# Altium footprint library Pressure_Sensors.PcbLib: 3 footprints
Each footprint in its own frame and in the unit in brackets; x right, y up, seen from the top. Pads: shape width x height; smd on the part's side, far side on the other; paste and mask are expansions set on the pad; w line width, h text height; cw(c..) or ccw(c..) is an arc to the next point about the centre after c.
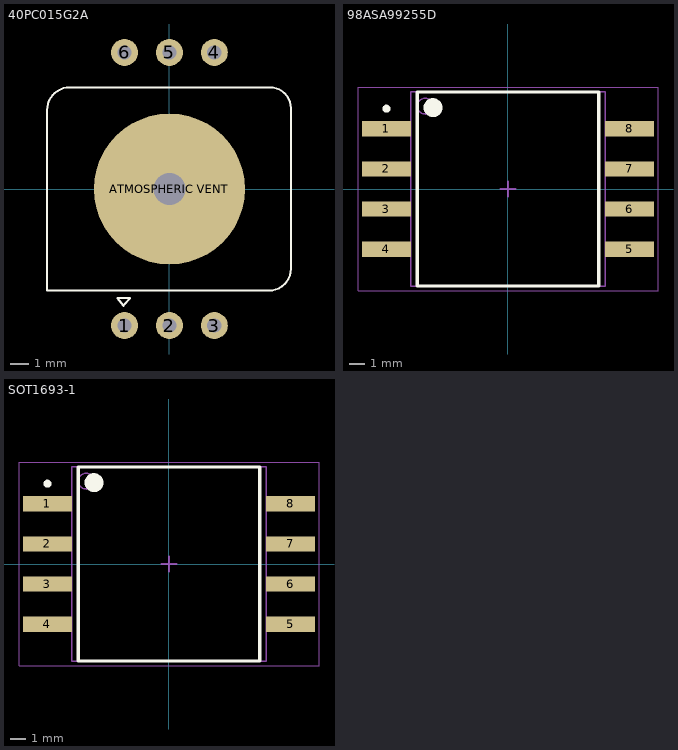
[diagram p0: the footprints below, top view; thin cyan lines are the x and y axes]

## 40PC015G2A [mm] "HONEYWELL PRESSURE SENSOR"
pads (7):
  round 1.5 hole 0.8: 1(-2.5,-7.6) 2(0,-7.6) 3(2.5,-7.6) 4(2.5,7.6) 5(0,7.6) 6(-2.5,7.6)
  round 8.4 hole 1.8: "ATMOSPHERIC VENT"(0,0)
Top Overlay:
  lines w0.112: -5.543,5.663 ccw(c-5.543,4.393) -6.813,4.393 -6.813,0.866 -6.813,-5.663 5.375,-5.663 5.53,-5.663 ccw(c5.53,-4.43) 6.763,-4.43 6.763,4.493 ccw(c5.593,4.493) 5.593,5.663 5.505,5.663 -5.53,5.663 ; -2.887,-6.075 -2.2,-6.075 -2.562,-6.5 -2.887,-6.075
3D body "User Library-Pressure_Honeywell_40PC250G1A.STEP": height 20.1, standoff -4.09, extent -6.65,-7.45 6.55,7.55

## 98ASA99255D [mm] "SOT, 8-Leads, Body 12.07x12.07mm, Pitch 1.27mm, IPC Medium Density"
height 9.91
pads (8):
  rect 3.1x0.965 smd: 1(-7.7,3.81) 2(-7.7,1.27) 3(-7.7,-1.27) 4(-7.7,-3.81) 5(7.7,-3.81) 6(7.7,-1.27) 7(7.7,1.27) 8(7.7,3.81)
Top Overlay:
  circle w0.6: c-4.75,5.15 r0.3
  circle w0.25: c-7.7,5.087 r0.125
  lines w0.2: -5.75,-6.15 5.75,-6.15 5.75,6.15 -5.75,6.15 -5.75,-6.15
Mechanical 13:
  circle w0.1: c-5.25,5.25 r0.5
  lines w0.1: -6.15,-6.15 6.15,-6.15 6.15,6.15 -6.15,6.15 -6.15,-6.15
Mechanical 15:
  lines w0.05: -9.5,-6.45 9.5,-6.45 9.5,6.45 -9.5,6.45 -9.5,-6.45
  lines w0.1: -0.5,0 0.5,0 ; 0,-0.5 0,0.5
3D body "Freescale 98ASA99255D Case.STEP": height 9.93, standoff -0.23, extent -8.781,-6.057 8.78,12.358

## SOT1693-1 [mm] "SOT, 8-Leads, Body 12.07x12.07mm, Pitch 1.27mm, IPC Medium Density"
height 9.91
pads (8):
  rect 3.1x0.965 smd: 1(-7.7,3.81) 2(-7.7,1.27) 3(-7.7,-1.27) 4(-7.7,-3.81) 5(7.7,-3.81) 6(7.7,-1.27) 7(7.7,1.27) 8(7.7,3.81)
Top Overlay:
  circle w0.25: c-7.7,5.087 r0.125
  circle w0.6: c-4.75,5.15 r0.3
  lines w0.2: -5.75,-6.15 -5.75,6.15 5.75,6.15 5.75,-6.15 -5.75,-6.15
Mechanical 13:
  circle w0.1: c-5.25,5.25 r0.5
  lines w0.1: -6.15,-6.15 -6.15,6.15 6.15,6.15 6.15,-6.15 -6.15,-6.15
Mechanical 15:
  lines w0.05: -9.5,-6.45 -9.5,6.45 9.5,6.45 9.5,-6.45 -9.5,-6.45
  lines w0.1: -0.5,0 0.5,0 ; 0,-0.5 0,0.5
3D body: height 9.91, standoff 0.25, extent -6.15,-6.15 6.15,6.15